# EAGLE library part 739-124/000-014 (library con-wago_739)
Serie 739, Stand: 01.01.2012. Die jeweils aktuellen Daten zu diesem Artikel finden Sie in unserem Produktkatalog, den Sie unter www.wago.com einsehen können. As of: 01/01/2012. Please find the newest data for this article in our product catalogue, which can be viewed under www.wago.com.
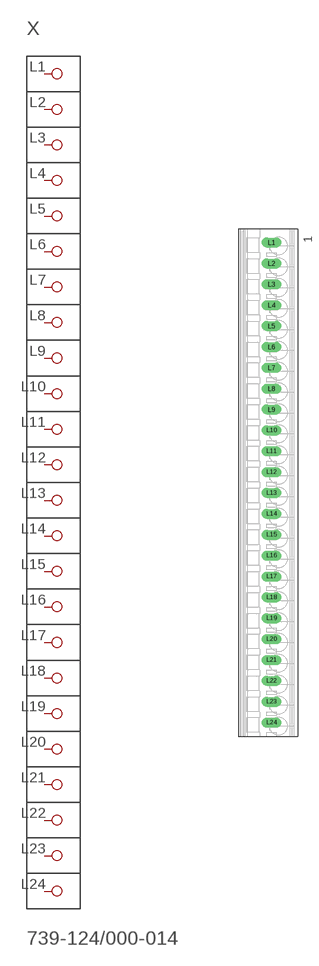
[diagram p161: symbol with the pads of P-739-124; footprint P-739-124]

Designator prefix X

## 739-124/000-014  [P-739-124]
L1  P1
L2  P2
L3  P3
L4  P4
L5  P5
L6  P6
L7  P7
L8  P8
L9  P9
L10  P10
L11  P11
L12  P12
L13  P13
L14  P14
L15  P15
L16  P16
L17  P17
L18  P18
L19  P19
L20  P20
L21  P21
L22  P22
L23  P23
L24  P24

## Footprint P-739-124 (pad centres in mm)
drill 1.6 long: L1 0.85,57.55; L2 0.85,52.55; L3 0.85,47.55; L4 0.85,42.55; L5 0.85,37.55; L6 0.85,32.55; L7 0.85,27.55; L8 0.85,22.55; L9 0.85,17.55; L10 0.85,12.55; L11 0.85,7.55; L12 0.85,2.55; L13 0.85,-2.45; L14 0.85,-7.45; L15 0.85,-12.45; L16 0.85,-17.45; L17 0.85,-22.45; L18 0.85,-27.45; L19 0.85,-32.45; L20 0.85,-37.45; L21 0.85,-42.45; L22 0.85,-47.45; L23 0.85,-52.45; L24 0.85,-57.45